# EAGLE library part DSPIC30F4012 (library microchip2)
dsPIC Motion Controller DSC
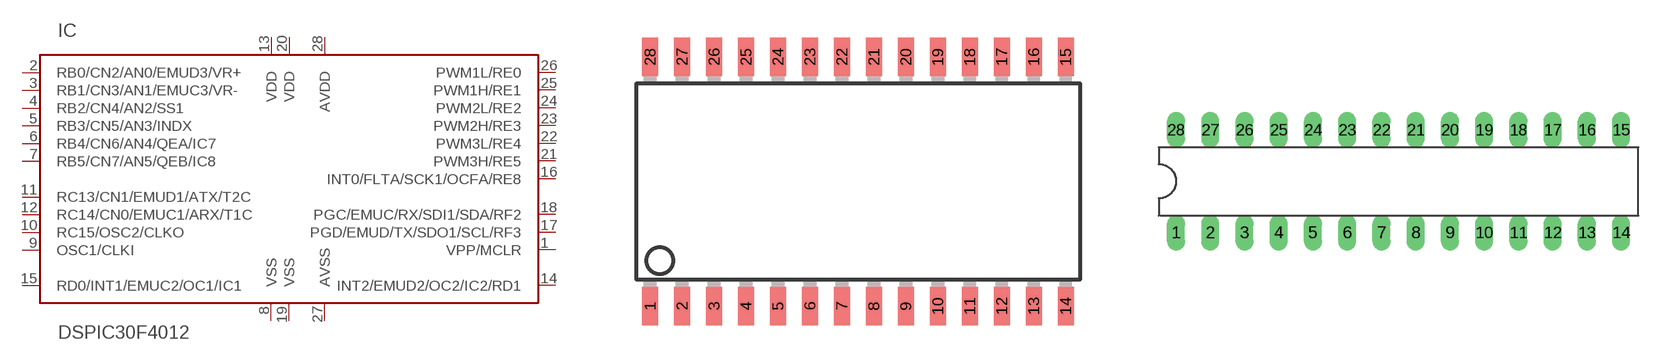
[diagram p230: symbol with the pads of SO-28W; footprints SO-28W, DIL28-3]

Designator prefix IC

## DSPIC30F4012/SO  [SO-28W]
1  VPP/MCLR  in
2  RB0/CN2/AN0/EMUD3/VR+
3  RB1/CN3/AN1/EMUC3/VR-
4  RB2/CN4/AN2/SS1
5  RB3/CN5/AN3/INDX
6  RB4/CN6/AN4/QEA/IC7
7  RB5/CN7/AN5/QEB/IC8
8  VSS  pwr
9  OSC1/CLKI  in
10  RC15/OSC2/CLKO
11  RC13/CN1/EMUD1/ATX/T2C
12  RC14/CN0/EMUC1/ARX/T1C
13  VDD  pwr
14  INT2/EMUD2/OC2/IC2/RD1
15  RD0/INT1/EMUC2/OC1/IC1
16  INT0/FLTA/SCK1/OCFA/RE8
17  PGD/EMUD/TX/SDO1/SCL/RF3
18  PGC/EMUC/RX/SDI1/SDA/RF2
19  VSS  pwr
20  VDD  pwr
21  PWM3H/RE5
22  PWM3L/RE4
23  PWM2H/RE3
24  PWM2L/RE2
25  PWM1H/RE1
26  PWM1L/RE0
27  AVSS  pwr
28  AVDD  pwr

## DSPIC30F4012/SP  [DIL28-3]
Pads as for SO-28W

## DSPIC30F4012/ML  [QFN44-8X8]
1  PGC/EMUC/RX/SDI1/SDA/RF2
6  VSS  pwr
7  VDD  pwr
9  PWM3H/RE5
10  PWM3L/RE4
11  PWM2H/RE3
12  PWM2L/RE2
14  PWM1H/RE1
15  PWM1L/RE0
16  AVSS  pwr
17  AVDD  pwr
18  VPP/MCLR  in
19  RB0/CN2/AN0/EMUD3/VR+
20  RB1/CN3/AN1/EMUC3/VR-
21  RB2/CN4/AN2/SS1
22  RB3/CN5/AN3/INDX
23  RB4/CN6/AN4/QEA/IC7
24  RB5/CN7/AN5/QEB/IC8
28  VDD  pwr
30  VSS  pwr
32  OSC1/CLKI  in
33  RC15/OSC2/CLKO
34  RC13/CN1/EMUD1/ATX/T2C
35  RC14/CN0/EMUC1/ARX/T1C
37  INT2/EMUD2/OC2/IC2/RD1
42  RD0/INT1/EMUC2/OC1/IC1
43  INT0/FLTA/SCK1/OCFA/RE8
44  PGD/EMUD/TX/SDO1/SCL/RF3

## Footprint SO-28W (pad centres in mm)
Small Outline Wide Plastic Gull Wing 300-mil body, package type SO
smd 0.635 x 1.524: 1 -7.62,-4.953; 2 -6.35,-4.953; 3 -5.08,-4.953; 4 -3.81,-4.953; 5 -2.54,-4.953; 6 -1.27,-4.953; 7 0,-4.953; 8 1.27,-4.953; 9 2.54,-4.953; 10 3.81,-4.953; 11 5.08,-4.953; 12 6.35,-4.953; 13 7.62,-4.953; 14 8.89,-4.953; 15 8.89,4.953; 16 7.62,4.953; 17 6.35,4.953; 18 5.08,4.953; 19 3.81,4.953; 20 2.54,4.953; 21 1.27,4.953; 22 0,4.953; 23 -1.27,4.953; 24 -2.54,4.953; 25 -3.81,4.953; 26 -5.08,4.953; 27 -6.35,4.953; 28 -7.62,4.953

## Footprint DIL28-3 (pad centres in mm)
Dual In Line package type P
drill 0.813 long: 1 -16.51,-3.81; 2 -13.97,-3.81; 3 -11.43,-3.81; 4 -8.89,-3.81; 5 -6.35,-3.81; 6 -3.81,-3.81; 7 -1.27,-3.81; 8 1.27,-3.81; 9 3.81,-3.81; 10 6.35,-3.81; 11 8.89,-3.81; 12 11.43,-3.81; 13 13.97,-3.81; 14 16.51,-3.81; 15 16.51,3.81; 16 13.97,3.81; 17 11.43,3.81; 18 8.89,3.81; 19 6.35,3.81; 20 3.81,3.81; 21 1.27,3.81; 22 -1.27,3.81; 23 -3.81,3.81; 24 -6.35,3.81; 25 -8.89,3.81; 26 -11.43,3.81; 27 -13.97,3.81; 28 -16.51,3.81

## Footprint QFN44-8X8 (pad centres in mm)
Quad Flat No Lead
smd 0.6 x 0.37: 1 3.825,-3.25; 2 3.825,-2.6; 3 3.825,-1.95; 4 3.825,-1.3; 5 3.825,-0.65; 6 3.825,0; 7 3.825,0.65; 8 3.825,1.3; 9 3.825,1.95; 10 3.825,2.6; 11 3.825,3.25; 23 -3.825,3.25; 24 -3.825,2.6; 25 -3.825,1.95; 26 -3.825,1.3; 27 -3.825,0.65; 28 -3.825,0; 29 -3.825,-0.65; 30 -3.825,-1.3; 31 -3.825,-1.95; 32 -3.825,-2.6; 33 -3.825,-3.25
smd 0.37 x 0.6: 12 3.25,3.825; 13 2.6,3.825; 14 1.95,3.825; 15 1.3,3.825; 16 0.65,3.825; 17 0,3.825; 18 -0.65,3.825; 19 -1.3,3.825; 20 -1.95,3.825; 21 -2.6,3.825; 22 -3.25,3.825; 34 -3.25,-3.825; 35 -2.6,-3.825; 36 -1.95,-3.825; 37 -1.3,-3.825; 38 -0.65,-3.825; 39 0,-3.825; 40 0.65,-3.825; 41 1.3,-3.825; 42 1.95,-3.825; 43 2.6,-3.825; 44 3.25,-3.825